# Altium footprint library SCREW_HOLE.PcbLib: 1 footprints
Each footprint in its own frame and in the unit in brackets; x right, y up, seen from the top. Pads: shape width x height; smd on the part's side, far side on the other; paste and mask are expansions set on the pad; w line width, h text height; cw(c..) or ccw(c..) is an arc to the next point about the centre after c.
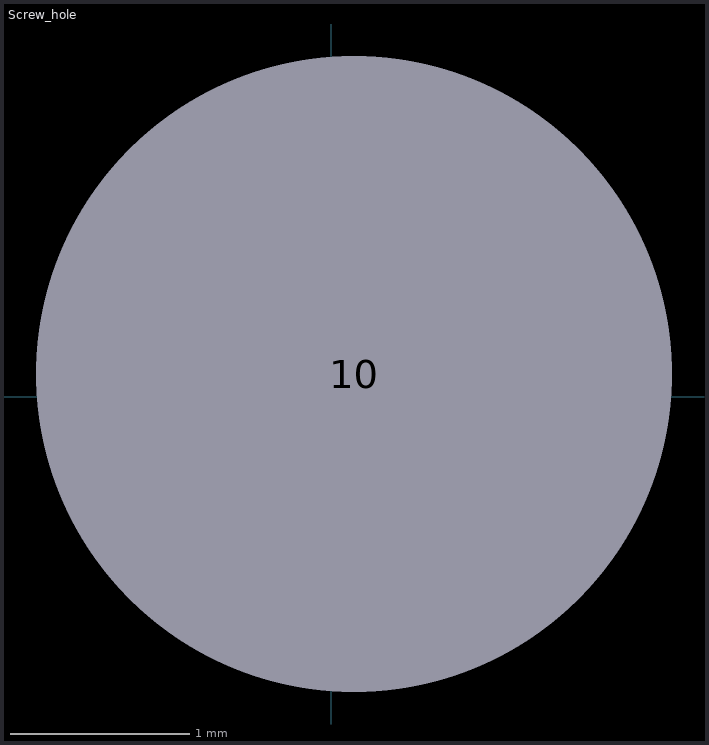
[diagram p0: the footprint, top view; thin cyan lines are the x and y axes]

## Screw_hole [mil]
pads (1):
  round 60 hole 140: 10(5,5)
3D body "91251A128_BLACK-OXIDE ALLOY STEEL SOCKET HEAD CAP SCREW.STEP": height 426.2, standoff -198.8, extent -97.5,-100 107.5,105